# EAGLE library part TCA9535PWR (library TCA9535)
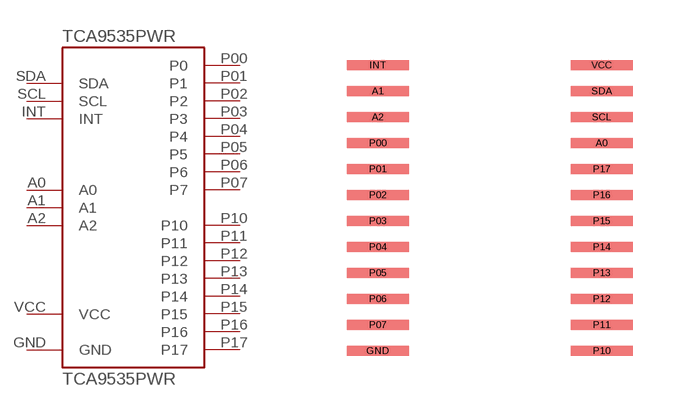
[diagram p0: symbol with the pads of TCA9535; footprint TCA9535]

Designator prefix -

## TCA9535PWR  [TCA9535]
A0  A0
A1  A1
A2  A2
GND  GND  pwr
INT  INT
P00  P0
P01  P1
P02  P2
P03  P3
P04  P4
P05  P5
P06  P6
P07  P7
P10  P10
P11  P11
P12  P12
P13  P13
P14  P14
P15  P15
P16  P16
P17  P17
SCL  SCL
SDA  SDA
VCC  VCC  pwr

## Footprint TCA9535 (pad centres in mm)
smd 1.55 x 0.25: A0 5.6,5.2; A1 0,6.5; A2 0,5.85; GND 0,0; INT 0,7.15; P00 0,5.2; P01 0,4.55; P02 0,3.9; P03 0,3.25; P04 0,2.6; P05 0,1.95; P06 0,1.3; P07 0,0.65; P10 5.6,0; P11 5.6,0.65; P12 5.6,1.3; P13 5.6,1.95; P14 5.6,2.6; P15 5.6,3.25; P16 5.6,3.9; P17 5.6,4.55; SCL 5.6,5.85; SDA 5.6,6.5; VCC 5.6,7.15